# EAGLE library part H550 (library EW_Electro_Mechanical)
RELAY bistable, 1 x switch, high current
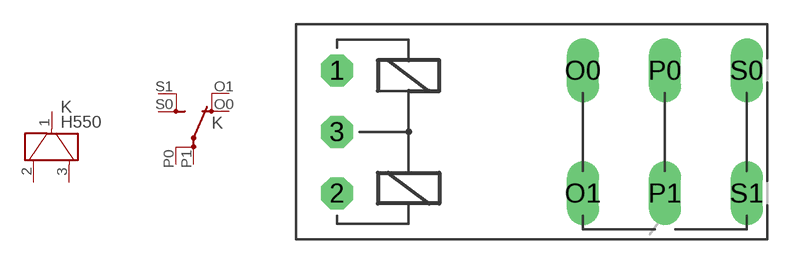
[diagram p60: symbol with the pads of H550; footprint H550]

Designator prefix K; gates 1=KD 2=UD

## H550 (OC_FARNELL: unknown; OC_NEWARK: unknown)  [H550]
1  1:1  pas
2  1:2  pas
3  1:3  pas
O0  2:O  pas
O1  2:O  pas
P0  2:P  pas
P1  2:P  pas
S0  2:S  pas
S1  2:S  pas

## Footprint H550 (pad centres in mm)
RELAY bistable, 1 x switch, high current
drill 1.321 octagon: 1 -7.62,3.81; 2 -7.62,-3.81; 3 -7.62,0
drill 1.321 long: O0 7.62,3.81; O1 7.62,-3.81; P0 12.7,3.81; P1 12.7,-3.81; S0 17.78,3.81; S1 17.78,-3.81